# Altium schematic symbol library Sensor_module.SchLib: 6 symbols
Pins are listed as number, name and electrical type; pins without a type are passive.

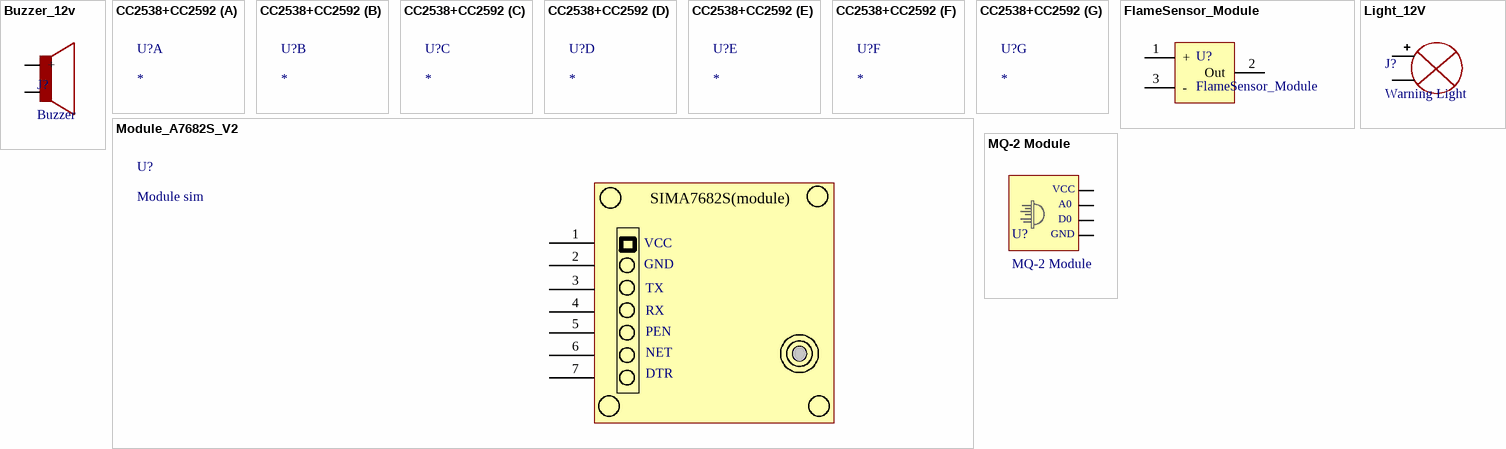
[diagram p0: symbols Buzzer_12v to MQ-2 Module]

## Buzzer_12v
designator J?, comment Buzzer
SFB-55 Còi Hú Báo Động 12VDC 110dB Dây Dài 95cm,  <350mA,  >=110dB, -20°C → +20°C
footprint PHOENIX_1935161
pins: 1 +, 2 -

## CC2538+CC2592
designator U?

## FlameSensor_Module
designator U?
LM393, 3 Chân, Nguồn: 3.3-5VDC, góc quét 60 độ, ngõ ra Digital, 32x14mm
footprint JP3-C1T (3 row, straight, gold plating)
pins: 1 +, 2 Out, 3 - (power)

## Light_12V
designator J?, comment Warning Light
AD16-22SM Đèn Còi Báo Màu Đỏ 22mm 12V, / ≤ 20mA
footprint PHOENIX_1935161
pins: 1 +, 2 -

## Module_A7682S_V2
designator U?, comment Module sim
Module 4G A7682S Volte Ra chân V2 TDM2431, 4.5-16V, 28×26.8×5.5mm, Mức logic I/OTTL( Serial 3.3V)
footprint A7682S _modulesim (V2 4G LTE)
pins: 1 VCC, 2 GND, 3 TX, 4 RX, 5 PEN, 6 NET, 7 DTR
text: SIMA7682S(module)

## MQ-2 Module
designator U?
Nguồn: 5VDC, Dòng: 150mA, đầu ra: digital analog.
footprint JP4-C1T (4 row, straight, gold plating)
pins: 1, 2, 3, 4
text: VCC; A0; D0; GND